# EAGLE library part DAC63204RTET (library DAC63204RTET)
Digital to Analog Converters - DAC 12-bit 4-channel voltage/current output smart DAC with Hi-Z, EEPROM and waveform generator 16-WQFN -40 to 125 Source: Datasheet <https://www.ti.com/lit/ds/symlink/dac63204.pdf>
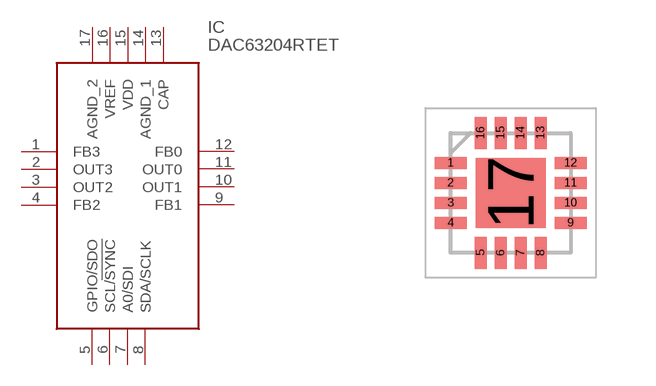
[diagram p0: symbol with the pads of QFN50P300X300X80-17N; footprint QFN50P300X300X80-17N]

Designator prefix IC

## DAC63204RTET (Description: Digital to Analog Converters - DAC 12-bit 4-channel voltage/current output smart DAC with Hi-Z, EEPROM and waveform generator 16-WQFN -40 to 125; Height: 0.8mm; Manufacturer_Name: Texas Instruments; Manufacturer_Part_Number: DAC63204RTET; Mouser_Part_Number: 595-DAC63204RTET; Mouser_Price-Stock: https://www.mouser.co.uk/ProductDetail/Texas-Instruments/DAC63204RTET?qs=doiCPypUmgHmvquVIBKsEw%3D%3D)  [QFN50P300X300X80-17N]
1  FB3
2  OUT3
3  OUT2
4  FB2
5  GPIO/SDO
6  SCL/!SYNC
7  A0/SDI
8  SDA/SCLK
9  FB1
10  OUT1
11  OUT0
12  FB0
13  CAP
14  AGND_1
15  VDD
16  VREF
17  AGND_2

## Footprint QFN50P300X300X80-17N (pad centres in mm)
RTE0016C_2024
smd 0.8 x 0.3: 1 -1.5,0.75; 2 -1.5,0.25; 3 -1.5,-0.25; 4 -1.5,-0.75; 9 1.5,-0.75; 10 1.5,-0.25; 11 1.5,0.25; 12 1.5,0.75
smd 0.3 x 0.8: 5 -0.75,-1.5; 6 -0.25,-1.5; 7 0.25,-1.5; 8 0.75,-1.5; 13 0.75,1.5; 14 0.25,1.5; 15 -0.25,1.5; 16 -0.75,1.5
smd 1.75 x 1.75: 17 0,0